# Altium footprint library caravan_pcb_lib.PcbLib: 24 footprints (part 2 of 2)
Each footprint in its own frame and in the unit in brackets; x right, y up, seen from the top. Pads: shape width x height; smd on the part's side, far side on the other; paste and mask are expansions set on the pad; w line width, h text height; cw(c..) or ccw(c..) is an arc to the next point about the centre after c.
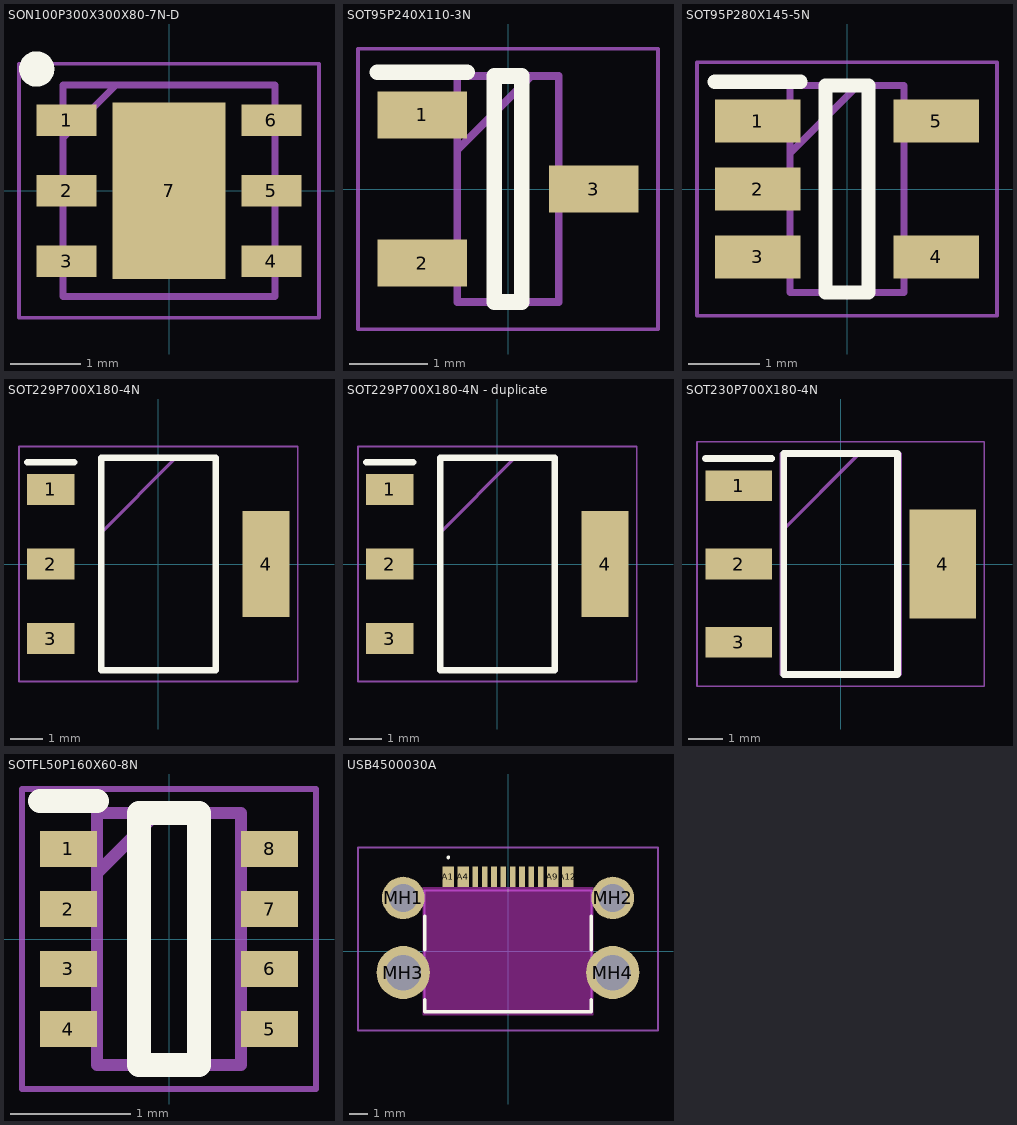
[diagram p1: the footprints below, top view; thin cyan lines are the x and y axes]

## SON100P300X300X80-7N-D [mm]
pads (7):
  rect 0.85x0.45 smd: 1(-1.45,1) 2(-1.45,0) 3(-1.45,-1) 4(1.45,-1) 5(1.45,0) 6(1.45,1)
  rect 1.6x2.5 smd: 7(0,0)
Top Overlay:
  circle w0.25: c-1.875,1.725 r0.125
Mechanical 13:
  lines w0.1: -1.5,0.75 -0.75,1.5 ; -1.5,-1.5 -1.5,1.5 1.5,1.5 1.5,-1.5 -1.5,-1.5
Mechanical 15:
  lines w0.05: -2.125,-1.8 -2.125,1.8 2.125,1.8 2.125,-1.8 -2.125,-1.8
3D body "HDC1080DMBR.stp": height 0.8, standoff 0, extent -1.55,-1.5 1.55,1.5

## SOT95P240X110-3N [mm]
pads (3):
  rect 1.15x0.6 smd: 1(-1.1,0.95) 2(-1.1,-0.95) 3(1.1,0)
Top Overlay:
  lines w0.2: -1.675,1.5 -0.525,1.5 ; -0.175,-1.45 -0.175,1.45 0.175,1.45 0.175,-1.45 -0.175,-1.45
Mechanical 13:
  lines w0.1: -0.65,0.5 0.3,1.45 ; -0.65,-1.45 -0.65,1.45 0.65,1.45 0.65,-1.45 -0.65,-1.45
Mechanical 15:
  lines w0.05: -1.925,-1.8 -1.925,1.8 1.925,1.8 1.925,-1.8 -1.925,-1.8
3D body "S8550.stp": height 1.1, standoff 0, extent -1.2,-1.45 1.2,1.45

## SOT95P280X145-5N [mm]
pads (5):
  rect 1.2x0.6 smd: 1(-1.25,0.95) 2(-1.25,0) 3(-1.25,-0.95) 4(1.25,-0.95) 5(1.25,0.95)
Top Overlay:
  lines w0.2: -1.85,1.5 -0.65,1.5 ; -0.3,-1.45 -0.3,1.45 0.3,1.45 0.3,-1.45 -0.3,-1.45
Mechanical 13:
  lines w0.1: -0.8,0.5 0.15,1.45 ; -0.8,-1.45 -0.8,1.45 0.8,1.45 0.8,-1.45 -0.8,-1.45
Mechanical 15:
  lines w0.05: -2.1,-1.775 -2.1,1.775 2.1,1.775 2.1,-1.775 -2.1,-1.775
3D body "TPS7A2433DBVR.stp": height 1.2, standoff 0, extent -1.4,-1.45 1.4,1.45

## SOT229P700X180-4N [mm]
pads (4):
  rect 1.45x0.95 smd: 1(-3.3,2.29) 2(-3.3,0) 3(-3.3,-2.29)
  rect 1.45x3.25 smd: 4(3.3,0)
Top Overlay:
  lines w0.2: -4.025,3.115 -2.575,3.115 ; -1.752,-3.252 -1.752,3.252 1.752,3.252 1.752,-3.252 -1.752,-3.252
Mechanical 13:
  lines w0.1: -1.752,0.962 0.538,3.252 ; -1.752,-3.252 -1.752,3.252 1.752,3.252 1.752,-3.252 -1.752,-3.252
Mechanical 15:
  lines w0.05: -4.275,-3.605 -4.275,3.605 4.275,3.605 4.275,-3.605 -4.275,-3.605
3D body "AMS1117-3.3.stp": height 1.8, standoff 0, extent -3.355,-3.15 3.355,3.15

## SOT229P700X180-4N - duplicate [mm]
pads (4):
  rect 1.45x0.95 smd: 1(-3.3,2.29) 2(-3.3,0) 3(-3.3,-2.29)
  rect 1.45x3.25 smd: 4(3.3,0)
Top Overlay:
  lines w0.2: -4.025,3.115 -2.575,3.115 ; -1.752,-3.252 1.752,-3.252 1.752,3.252 -1.752,3.252 -1.752,-3.252
Mechanical 13:
  lines w0.1: -1.752,0.962 0.538,3.252 ; -1.752,-3.252 1.752,-3.252 1.752,3.252 -1.752,3.252 -1.752,-3.252
Mechanical 15:
  lines w0.05: -4.275,-3.605 4.275,-3.605 4.275,3.605 -4.275,3.605 -4.275,-3.605
3D body "AMS1117-3.3.stp": height 1.8, standoff 0, extent -3.355,-3.15 3.355,3.15

## SOT230P700X180-4N [mm]
pads (4):
  rect 1.95x0.9 smd: 1(-3,2.3) 2(-3,0) 3(-3,-2.3)
  rect 1.95x3.2 smd: 4(3,0)
Top Overlay:
  lines w0.2: -3.975,3.1 -2.025,3.1 ; -1.675,-3.25 1.675,-3.25 1.675,3.25 -1.675,3.25 -1.675,-3.25
Mechanical 13:
  lines w0.1: -1.75,0.95 0.55,3.25 ; -1.75,-3.25 1.75,-3.25 1.75,3.25 -1.75,3.25 -1.75,-3.25
Mechanical 15:
  lines w0.05: -4.225,-3.6 4.225,-3.6 4.225,3.6 -4.225,3.6 -4.225,-3.6
3D body "BCP51-16,115.stp": height 1.65, standoff 0, extent -3.5,-3.333 3.5,3.327

## SOTFL50P160X60-8N [mm]
pads (8):
  rect 0.475x0.3 smd: 1(-0.838,0.75) 2(-0.838,0.25) 3(-0.838,-0.25) 4(-0.838,-0.75) 5(0.838,-0.75) 6(0.838,-0.25) 7(0.838,0.25) 8(0.838,0.75)
Top Overlay:
  lines w0.2: -1.075,1.15 -0.6,1.15 ; -0.25,-1.05 0.25,-1.05 0.25,1.05 -0.25,1.05 -0.25,-1.05
Mechanical 13:
  lines w0.1: -0.6,0.55 -0.1,1.05 ; -0.6,-1.05 0.6,-1.05 0.6,1.05 -0.6,1.05 -0.6,-1.05
Mechanical 15:
  lines w0.05: -1.225,-1.25 1.225,-1.25 1.225,1.25 -1.225,1.25 -1.225,-1.25
3D body "TPS62933DRLR.stp": height 0.6, standoff 0, extent -0.8,-1.02 0.8,1.08

## USB4500030A [mm]
pads (16):
  rect 0.6x1.1 smd: A1(-3.2,4) A4(-2.4,4) A9(2.4,4) A12(3.2,4)
  rect 0.3x1.1 smd: A5(-1.25,4) A6(-0.25,4) A7(0.25,4) A8(1.25,4) B5(1.75,4) B6(0.75,4) B7(-0.75,4) B8(-1.75,4)
  round 2.28 hole 1.52: MH1(-5.62,2.85) MH2(5.62,2.85)
  round 2.85 hole 1.9: MH3(-5.62,-1.15) MH4(5.62,-1.15)
Top Overlay:
  lines w0.1: -3.2,4.975 ccw(c-3.2,5.025) -3.2,5.075 ccw(c-3.2,5.025) -3.2,4.975
  lines w0.2: -4.47,-2.625 -4.47,-3.25 4.47,-3.25 4.47,-2.625 ; -4.47,0.075 -4.47,1.875 ; 4.47,0.075 4.47,1.875
Keep-Out Layer:
  board cut-out: -4.572,3.429 4.572,3.429 4.572,-3.429 -4.572,-3.429
Mechanical 13:
  lines w0.1: -4.47,-3.25 4.47,-3.25 4.47,3.25 -4.47,3.25 -4.47,-3.25
Mechanical 15:
  lines w0.1: -8.045,-4.25 8.045,-4.25 8.045,5.55 -8.045,5.55 -8.045,-4.25
3D body "USB4500-03-0-A.stp": height 2.36, standoff -0.8, extent -5.775,-2.95 5.775,4.252